# Altium footprint library TSM2X7.PcbLib: 1 footprints
Each footprint in its own frame and in the unit in brackets; x right, y up, seen from the top. Pads: shape width x height; smd on the part's side, far side on the other; paste and mask are expansions set on the pad; w line width, h text height; cw(c..) or ccw(c..) is an arc to the next point about the centre after c.
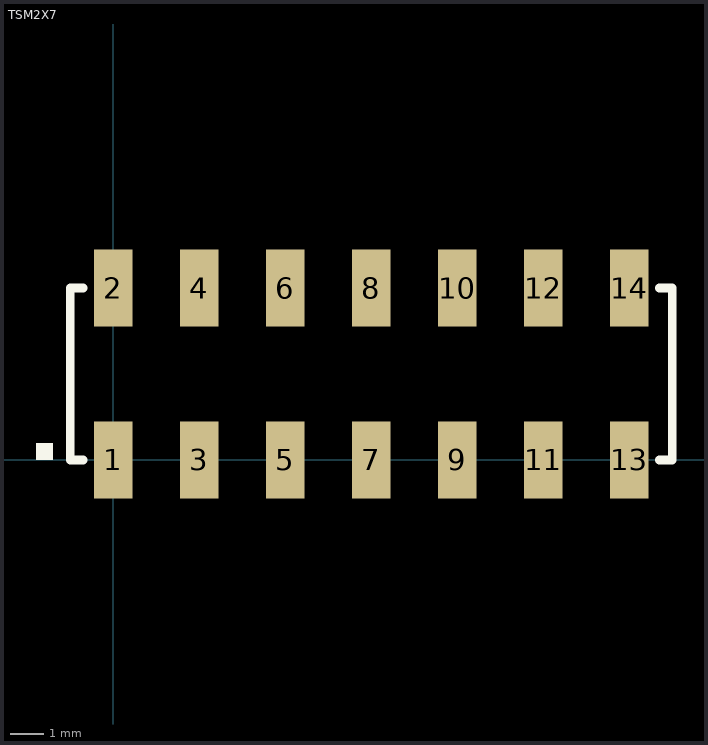
[diagram p0: the footprint, top view; thin cyan lines are the x and y axes]

## TSM2X7 [mil]
pads (14):
  rect 45x90 smd: 1(0,0) 2(0,200) 3(100,0) 4(100,200) 5(200,0) 6(200,200) 7(300,0) 8(300,200) 9(400,0) 10(400,200) 11(500,0) 12(500,200) 13(600,0) 14(600,200)
Top Overlay:
  rectangle: -90,0 -70,20
  lines w10: -35,0 -50,0 -50,200 -35,200 ; 635,0 650,0 650,200 635,200
3D body: height 380, standoff 0, extent -50,-45 650,245